# EAGLE library part MCP73871-2AAI/ML (library MCP73871 - Powerpath and Charge Controller)
IC, BATTERY CHARGER, 1A
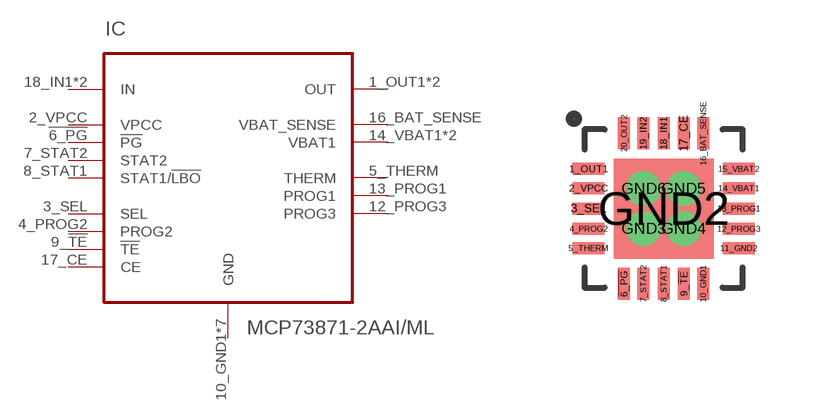
[diagram p0: symbol with the pads of QFN50P400X400X100-21N; footprint QFN50P400X400X100-21N]

Designator prefix IC

## MCP73871-2AAI/ML (MPN: MCP73871-2AAI/ML; OC_FARNELL: 1642487; OC_NEWARK: 54M4955; PACKAGE: QFN-20; SUPPLIER: Microchip)  [QFN50P400X400X100-21N]
1_OUT1  OUT  pwr
2_VPCC  VPCC  in
3_SEL  SEL  in
4_PROG2  PROG2  in
5_THERM  THERM  pwr
7_STAT2  STAT2  out
8_STAT1  STAT1/!LBO!  out
9_!TE!  !TE!  in
10_GND1  GND  pwr
11_GND2  GND  pwr
12_PROG3  PROG3  pwr
13_PROG1  PROG1
14_VBAT1  VBAT1  pwr
15_VBAT2  VBAT1  pwr
16_BAT_SENSE  VBAT_SENSE  hiz
17_CE  CE  in
18_IN1  IN  pwr
19_IN2  IN  pwr
20_OUT2  OUT  pwr
!6_PG!  !PG!  out
GND2  GND  pwr
GND3  GND  pwr
GND4  GND  pwr
GND5  GND  pwr
GND6  GND  pwr

## Footprint QFN50P400X400X100-21N (pad centres in mm)
smd 0.8 x 0.3: 1_OUT1 -1.88,0.991; 2_VPCC -1.88,0.508; 3_SEL -1.88,0; 4_PROG2 -1.88,-0.508; 5_THERM -1.88,-0.991; 11_GND2 1.88,-0.991; 12_PROG3 1.88,-0.508; 13_PROG1 1.88,0; 14_VBAT1 1.88,0.508; 15_VBAT2 1.88,0.991
smd 0.3 x 0.8: 7_STAT2 -0.508,-1.88; 8_STAT1 0,-1.88; 9_!TE! 0.508,-1.88; 10_GND1 0.991,-1.88; 16_BAT_SENSE 0.991,1.88; 17_CE 0.508,1.88; 18_IN1 0,1.88; 19_IN2 -0.508,1.88; 20_OUT2 -0.991,1.88; !6_PG! -0.991,-1.88
smd 2.5 x 2.5: GND2 0,0
drill 0.35 pad 0.61: GND3 -0.5,-0.5; GND4 0.5,-0.5; GND5 0.5,0.5; GND6 -0.5,0.5